# EAGLE library part CC2591_RGV_16 (library cyberhedz)
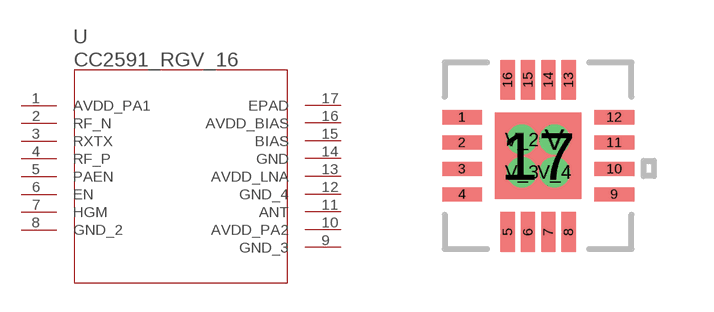
[diagram p10: symbol with the pads of RGV16_2P16X2P16; footprint RGV16_2P16X2P16]

Designator prefix U

## CC2591_RGV_16 (DATASHEETURL: http://www.ti.com/lit/gpn/CC2591; DESCRIPTION: 2.4 GHz RF Front End; FAMILY_NAME: 2.4 GHZ; GENERIC_PART_NUMBER: CC2591; INDUSTRY_STD_PKG_TYPE: VQFN; MANUFACTURER: Texas Instruments; PACKAGE_DESIGNATOR: RGV; PIN_COUNT: 16)  [RGV16_2P16X2P16]
1  AVDD_PA1  pwr
2  RF_N  pas
3  RXTX  pas
4  RF_P  pas
5  PAEN  in
6  EN  in
7  HGM  in
8  GND_2  pwr
9  GND_3  pwr
10  AVDD_PA2  pwr
11  ANT  pas
12  GND_4  pwr
13  AVDD_LNA  pwr
14  GND  pwr
15  BIAS  pas
16  AVDD_BIAS  pwr
17  EPAD  pwr

## Footprint RGV16_2P16X2P16 (pad centres in mm)
smd 0.991 x 0.356: 1 -1.905,0.965; 2 -1.905,0.33; 3 -1.905,-0.33; 4 -1.905,-0.965; 9 1.905,-0.965; 10 1.905,-0.33; 11 1.905,0.33; 12 1.905,0.965
smd 0.356 x 0.991: 5 -0.762,-1.905; 6 -0.254,-1.905; 7 0.254,-1.905; 8 0.762,-1.905; 13 0.762,1.905; 14 0.254,1.905; 15 -0.254,1.905; 16 -0.762,1.905
smd 2.159 x 2.159: 17 0,0
drill 0.254: V 0.406,0.406; V_2 -0.406,0.406; V_3 -0.406,-0.406; V_4 0.406,-0.406